# EAGLE library part USBLC6-4SC6Y (library vym0038_k22_misc)
Automotive very low capacitance ESD protection
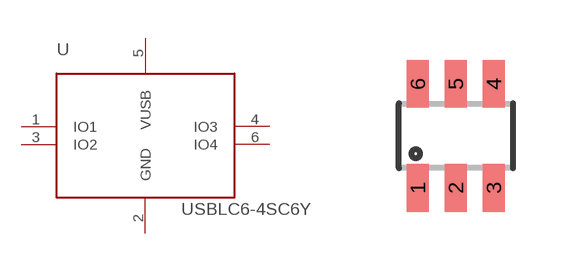
[diagram p0: symbol with the pads of SOT23-6L; footprint SOT23-6L]

Designator prefix -

## USBLC6-4SC6Y  [SOT23-6L]
1  IO1  in
2  GND  pwr
3  IO2  in
4  IO3  in
5  VUSB  pwr
6  IO4  in

## Footprint SOT23-6L (pad centres in mm)
Small Outline Transistor
smd 0.55 x 1.2: 1 -0.95,-1.3; 2 0,-1.3; 3 0.95,-1.3; 4 0.95,1.3; 5 0,1.3; 6 -0.95,1.3